# Altium schematic symbol library 687 1xx 182 122.SchLib: 18 symbols
Pins are listed as number, name and electrical type; pins without a type are passive.

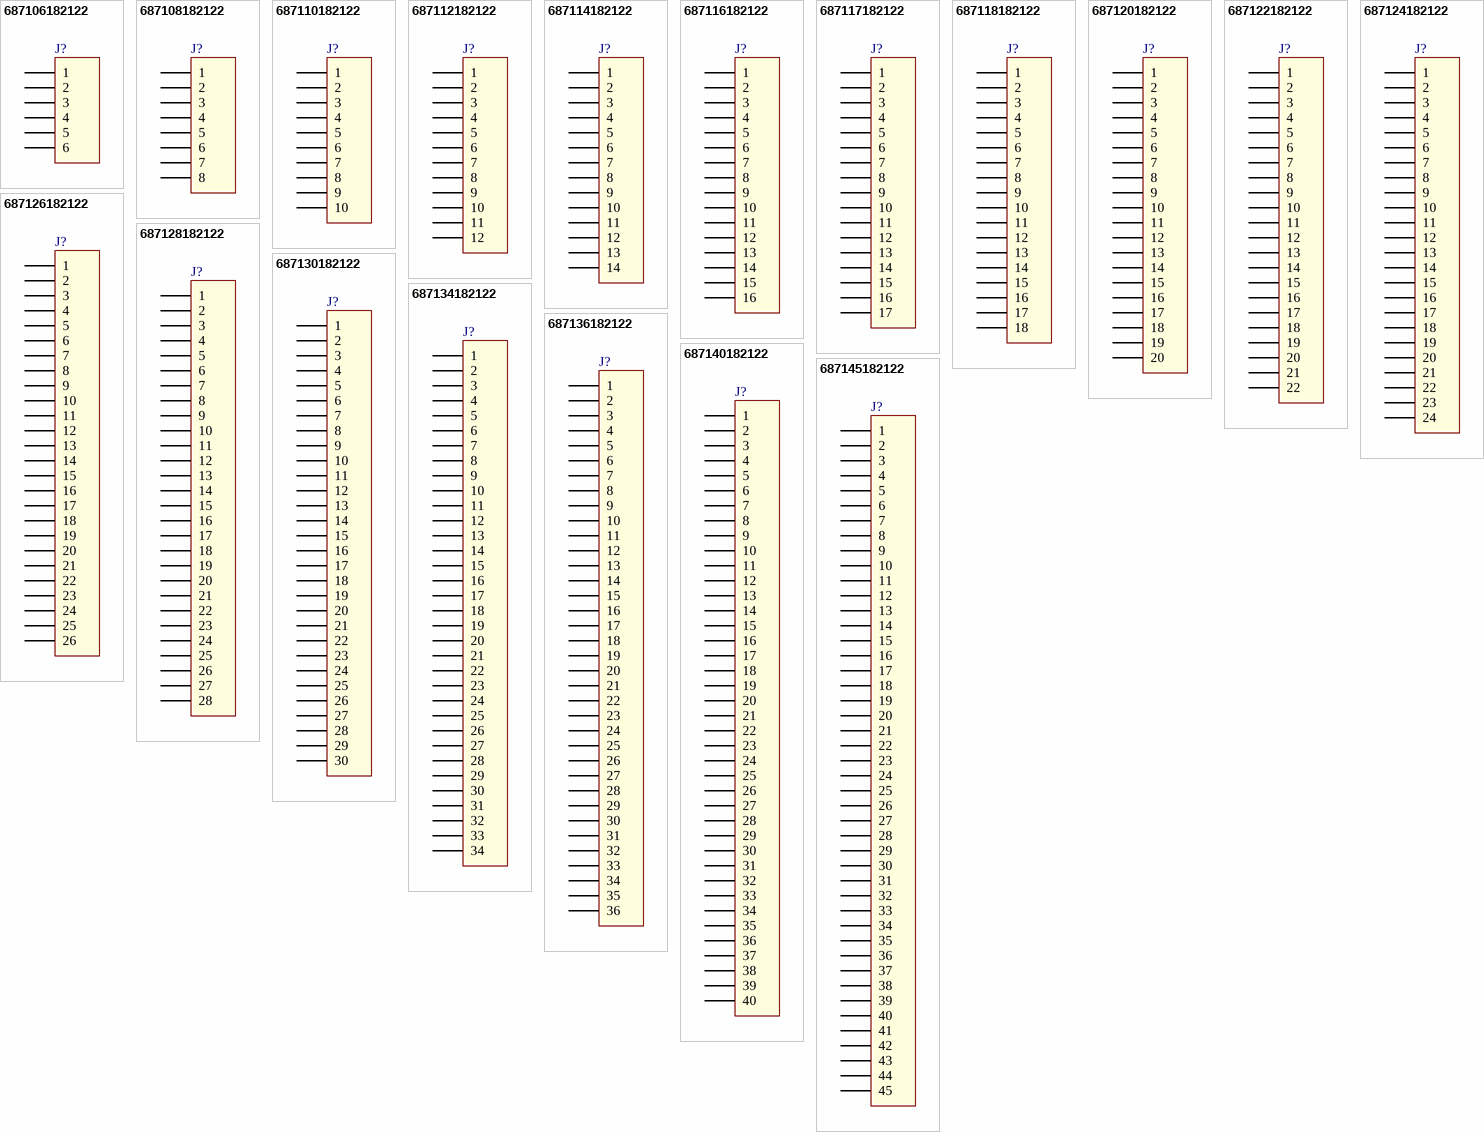
[diagram p0: symbols 687106182122 to 687145182122]

## 687106182122
designator J?
0.50 mm SMT ZIF Horizontal Dual Contact WR-FPC, 6 pins; Part Number: 687106182122; Pitch: 0.5 mm; Pin Number: 6; ComponentLink1Description: Manufacturer; ComponentLink1URL: http://www.we-online.de; ComponentLink2Description: Datasheet; ComponentLink2URL: http://katalog.we-online.com/em/datasheet/6871xx182122.pdf; Published Date: April 2017; Publisher: Wurth Elektronik
footprint 687106182122 (0.50 mm SMT ZIF Horizontal Dual Contact, 6p)
pins: 1, 2, 3, 4, 5, 6

## 687108182122
designator J?
0.50 mm SMT ZIF Horizontal Dual Contact WR-FPC, 8 pins; Part Number: 687108182122; Pitch: 0.5 mm; Pin Number: 8; ComponentLink1Description: Manufacturer; ComponentLink1URL: http://www.we-online.de; ComponentLink2Description: Datasheet; ComponentLink2URL: http://katalog.we-online.com/em/datasheet/6871xx182122.pdf; Published Date: April 2017; Publisher: Wurth Elektronik
footprint 687108182122 (0.50 mm SMT ZIF Horizontal Dual Contact, 8p)
pins: 1, 2, 3, 4, 5, 6, 7, 8

## 687110182122
designator J?
0.50 mm SMT ZIF Horizontal Dual Contact WR-FPC, 10 pins; Part Number: 687110182122; Pitch: 0.5 mm; Pin Number: 10; ComponentLink1Description: Manufacturer; ComponentLink1URL: http://www.we-online.de; ComponentLink2Description: Datasheet; ComponentLink2URL: http://katalog.we-online.com/em/datasheet/6871xx182122.pdf; Published Date: April 2017; Publisher: Wurth Elektronik
footprint 687110182122 (0.50 mm SMT ZIF Horizontal Dual Contact, 10p)
pins: 1, 2, 3, 4, 5, 6, 7, 8, 9, 10

## 687112182122
designator J?
0.50 mm SMT ZIF Horizontal Dual Contact WR-FPC, 12 pins; Part Number: 687112182122; Pitch: 0.5 mm; Pin Number: 12; ComponentLink1Description: Manufacturer; ComponentLink1URL: http://www.we-online.de; ComponentLink2Description: Datasheet; ComponentLink2URL: http://katalog.we-online.com/em/datasheet/6871xx182122.pdf; Published Date: April 2017; Publisher: Wurth Elektronik
footprint 687112182122 (0.50 mm SMT ZIF Horizontal Dual Contact, 12p)
pins: 1, 2, 3, 4, 5, 6, 7, 8, 9, 10, 11, 12

## 687114182122
designator J?
0.50 mm SMT ZIF Horizontal Dual Contact WR-FPC, 14 pins; Part Number: 687114182122; Pitch: 0.5 mm; Pin Number: 14; ComponentLink1Description: Manufacturer; ComponentLink1URL: http://www.we-online.de; ComponentLink2Description: Datasheet; ComponentLink2URL: http://katalog.we-online.com/em/datasheet/6871xx182122.pdf; Published Date: April 2017; Publisher: Wurth Elektronik
footprint 687114182122 (0.50 mm SMT ZIF Horizontal Dual Contact, 14p)
pins: 1, 2, 3, 4, 5, 6, 7, 8, 9, 10, 11, 12, 13, 14

## 687116182122
designator J?
0.50 mm SMT ZIF Horizontal Dual Contact WR-FPC, 16 pins; Part Number: 687116182122; Pitch: 0.5 mm; Pin Number: 16; ComponentLink1Description: Manufacturer; ComponentLink1URL: http://www.we-online.de; ComponentLink2Description: Datasheet; ComponentLink2URL: http://katalog.we-online.com/em/datasheet/6871xx182122.pdf; Published Date: April 2017; Publisher: Wurth Elektronik
footprint 687116182122 (0.50 mm SMT ZIF Horizontal Dual Contact, 16p)
pins: 1, 2, 3, 4, 5, 6, 7, 8, 9, 10, 11, 12, 13, 14, 15, 16

## 687117182122
designator J?
0.50 mm SMT ZIF Horizontal Dual Contact WR-FPC, 17 pins; Part Number: 687117182122; Pitch: 0.5 mm; Pin Number: 17; ComponentLink1Description: Manufacturer; ComponentLink1URL: http://www.we-online.de; ComponentLink2Description: Datasheet; ComponentLink2URL: http://katalog.we-online.com/em/datasheet/6871xx182122.pdf; Published Date: April 2017; Publisher: Wurth Elektronik
footprint 687117182122 (0.50 mm SMT ZIF Horizontal Dual Contact, 17p)
pins: 1, 2, 3, 4, 5, 6, 7, 8, 9, 10, 11, 12, 13, 14, 15, 16, 17

## 687118182122
designator J?
0.50 mm SMT ZIF Horizontal Dual Contact WR-FPC, 18 pins; Part Number: 687118182122; Pitch: 0.5 mm; Pin Number: 18; ComponentLink1Description: Manufacturer; ComponentLink1URL: http://www.we-online.de; ComponentLink2Description: Datasheet; ComponentLink2URL: http://katalog.we-online.com/em/datasheet/6871xx182122.pdf; Published Date: April 2017; Publisher: Wurth Elektronik
footprint 687118182122 (0.50 mm SMT ZIF Horizontal Dual Contact, 18p)
pins: 1, 2, 3, 4, 5, 6, 7, 8, 9, 10, 11, 12, 13, 14, 15, 16, 17, 18

## 687120182122
designator J?
0.50 mm SMT ZIF Horizontal Dual Contact WR-FPC, 20 pins; Part Number: 687120182122; Pitch: 0.5 mm; Pin Number: 20; ComponentLink1Description: Manufacturer; ComponentLink1URL: http://www.we-online.de; ComponentLink2Description: Datasheet; ComponentLink2URL: http://katalog.we-online.com/em/datasheet/6871xx182122.pdf; Published Date: April 2017; Publisher: Wurth Elektronik
footprint 687120182122 (0.50 mm SMT ZIF Horizontal Dual Contact, 20p)
pins: 1, 2, 3, 4, 5, 6, 7, 8, 9, 10, 11, 12, 13, 14, 15, 16, 17, 18, 19, 20

## 687122182122
designator J?
0.50 mm SMT ZIF Horizontal Dual Contact WR-FPC, 22 pins; Part Number: 687122182122; Pitch: 0.5 mm; Pin Number: 22; ComponentLink1Description: Manufacturer; ComponentLink1URL: http://www.we-online.de; ComponentLink2Description: Datasheet; ComponentLink2URL: http://katalog.we-online.com/em/datasheet/6871xx182122.pdf; Published Date: April 2017; Publisher: Wurth Elektronik
footprint 687122182122 (0.50 mm SMT ZIF Horizontal Dual Contact, 22p)
pins: 1, 2, 3, 4, 5, 6, 7, 8, 9, 10, 11, 12, 13, 14, 15, 16, 17, 18, 19, 20, 21, 22

## 687124182122
designator J?
0.50 mm SMT ZIF Horizontal Dual Contact WR-FPC, 24 pins; Part Number: 687124182122; Pitch: 0.5 mm; Pin Number: 24; ComponentLink1Description: Manufacturer; ComponentLink1URL: http://www.we-online.de; ComponentLink2Description: Datasheet; ComponentLink2URL: http://katalog.we-online.com/em/datasheet/6871xx182122.pdf; Published Date: April 2017; Publisher: Wurth Elektronik
footprint 687124182122 (0.50 mm SMT ZIF Horizontal Dual Contact, 24p)
pins: 1, 2, 3, 4, 5, 6, 7, 8, 9, 10, 11, 12, 13, 14, 15, 16, 17, 18, 19, 20, 21, 22, 23, 24

## 687126182122
designator J?
0.50 mm SMT ZIF Horizontal Dual Contact WR-FPC, 26 pins; Part Number: 687126182122; Pitch: 0.5 mm; Pin Number: 26; ComponentLink1Description: Manufacturer; ComponentLink1URL: http://www.we-online.de; ComponentLink2Description: Datasheet; ComponentLink2URL: http://katalog.we-online.com/em/datasheet/6871xx182122.pdf; Published Date: April 2017; Publisher: Wurth Elektronik
footprint 687126182122 (0.50 mm SMT ZIF Horizontal Dual Contact, 26p)
pins: 1, 2, 3, 4, 5, 6, 7, 8, 9, 10, 11, 12, 13, 14, 15, 16, 17, 18, 19, 20, 21, 22, 23, 24, 25, 26

## 687128182122
designator J?
0.50 mm SMT ZIF Horizontal Dual Contact WR-FPC, 28 pins; Part Number: 687128182122; Pitch: 0.5 mm; Pin Number: 28; ComponentLink1Description: Manufacturer; ComponentLink1URL: http://www.we-online.de; ComponentLink2Description: Datasheet; ComponentLink2URL: http://katalog.we-online.com/em/datasheet/6871xx182122.pdf; Published Date: April 2017; Publisher: Wurth Elektronik
footprint 687128182122 (0.50 mm SMT ZIF Horizontal Dual Contact, 28p)
pins: 1, 2, 3, 4, 5, 6, 7, 8, 9, 10, 11, 12, 13, 14, 15, 16, 17, 18, 19, 20, 21, 22, 23, 24, 25, 26, 27, 28

## 687130182122
designator J?
0.50 mm SMT ZIF Horizontal Dual Contact WR-FPC, 30 pins; Part Number: 687130182122; Pitch: 0.5 mm; Pin Number: 30; ComponentLink1Description: Manufacturer; ComponentLink1URL: http://www.we-online.de; ComponentLink2Description: Datasheet; ComponentLink2URL: http://katalog.we-online.com/em/datasheet/6871xx182122.pdf; Published Date: April 2017; Publisher: Wurth Elektronik
footprint 687130182122 (0.50 mm SMT ZIF Horizontal Dual Contact, 30p)
pins: 1, 2, 3, 4, 5, 6, 7, 8, 9, 10, 11, 12, 13, 14, 15, 16, 17, 18, 19, 20, 21, 22, 23, 24, 25, 26, 27, 28, 29, 30

## 687134182122
designator J?
0.50 mm SMT ZIF Horizontal Dual Contact WR-FPC, 34 pins; Part Number: 687134182122; Pitch: 0.5 mm; Pin Number: 34; ComponentLink1Description: Manufacturer; ComponentLink1URL: http://www.we-online.de; ComponentLink2Description: Datasheet; ComponentLink2URL: http://katalog.we-online.com/em/datasheet/6871xx182122.pdf; Published Date: April 2017; Publisher: Wurth Elektronik
footprint 687134182122 (0.50 mm SMT ZIF Horizontal Dual Contact, 34p)
pins: 1, 2, 3, 4, 5, 6, 7, 8, 9, 10, 11, 12, 13, 14, 15, 16, 17, 18, 19, 20, 21, 22, 23, 24, 25, 26, 27, 28, 29, 30, 31, 32, 33, 34

## 687136182122
designator J?
0.50 mm SMT ZIF Horizontal Dual Contact WR-FPC, 36 pins; Part Number: 687136182122; Pitch: 0.5 mm; Pin Number: 36; ComponentLink1Description: Manufacturer; ComponentLink1URL: http://www.we-online.de; ComponentLink2Description: Datasheet; ComponentLink2URL: http://katalog.we-online.com/em/datasheet/6871xx182122.pdf; Published Date: April 2017; Publisher: Wurth Elektronik
footprint 687136182122 (0.50 mm SMT ZIF Horizontal Dual Contact, 36p)
pins: 1, 2, 3, 4, 5, 6, 7, 8, 9, 10, 11, 12, 13, 14, 15, 16, 17, 18, 19, 20, 21, 22, 23, 24, 25, 26, 27, 28, 29, 30, 31, 32, 33, 34, 35, 36

## 687140182122
designator J?
0.50 mm SMT ZIF Horizontal Dual Contact WR-FPC, 40 pins; Part Number: 687140182122; Pitch: 0.5 mm; Pin Number: 40; ComponentLink1Description: Manufacturer; ComponentLink1URL: http://www.we-online.de; ComponentLink2Description: Datasheet; ComponentLink2URL: http://katalog.we-online.com/em/datasheet/6871xx182122.pdf; Published Date: April 2017; Publisher: Wurth Elektronik
footprint 687140182122 (0.50 mm SMT ZIF Horizontal Dual Contact, 40p)
pins: 1, 2, 3, 4, 5, 6, 7, 8, 9, 10, 11, 12, 13, 14, 15, 16, 17, 18, 19, 20, 21, 22, 23, 24, 25, 26, 27, 28, 29, 30, 31, 32, 33, 34, 35, 36, 37, 38, 39, 40

## 687145182122
designator J?
0.50 mm SMT ZIF Horizontal Dual Contact WR-FPC, 45 pins; Part Number: 687145182122; Pitch: 0.5 mm; Pin Number: 45; ComponentLink1Description: Manufacturer; ComponentLink1URL: http://www.we-online.de; ComponentLink2Description: Datasheet; ComponentLink2URL: http://katalog.we-online.com/em/datasheet/6871xx182122.pdf; Published Date: April 2017; Publisher: Wurth Elektronik
footprint 687145182122 (0.50 mm SMT ZIF Horizontal Dual Contact, 45p)
pins: 1, 2, 3, 4, 5, 6, 7, 8, 9, 10, 11, 12, 13, 14, 15, 16, 17, 18, 19, 20, 21, 22, 23, 24, 25, 26, 27, 28, 29, 30, 31, 32, 33, 34, 35, 36, 37, 38, 39, 40, 41, 42, 43, 44, 45